# Altium schematic symbol library BJT_Nexperia_BCP53-10TF_PNP.SchLib: 1 symbol
Pins are listed as number, name and electrical type; pins without a type are passive.

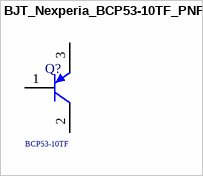
[diagram p0: symbol BJT_Nexperia_BCP53-10TF_PNP]

## BJT_Nexperia_BCP53-10TF_PNP
designator Q?  Series: BCP53-10TF  (hidden comment: BJT_Nexperia_BCP53-10TF_PNP)
Bipolar Transistors - BJT Bipolar Discretes AEC-Q101; Supplier Part Number 1: 771-BCP53-10TF; Supplier 1: Mouser
pins: 1 B, 2 C, 3 E